# Altium footprint library SMD-14.PcbLib: 1 footprints
Each footprint in its own frame and in the unit in brackets; x right, y up, seen from the top. Pads: shape width x height; smd on the part's side, far side on the other; paste and mask are expansions set on the pad; w line width, h text height; cw(c..) or ccw(c..) is an arc to the next point about the centre after c.
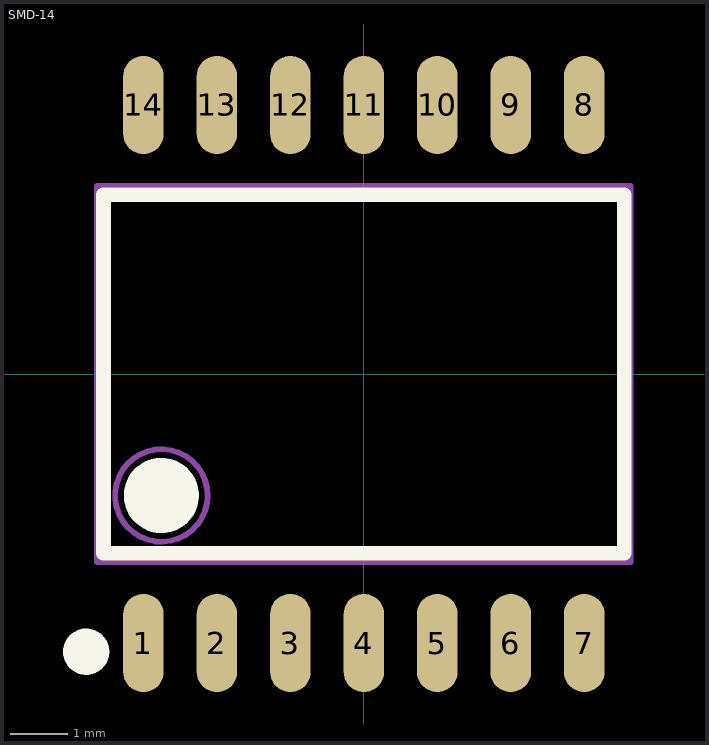
[diagram p0: the footprint, top view; thin cyan lines are the x and y axes]

## SMD-14 [mm]
pads (14):
  oval 0.7x1.7 smd: 1(-3.81,-4.65) 2(-2.54,-4.65) 3(-1.27,-4.65) 4(0,-4.65) 5(1.27,-4.65) 6(2.54,-4.65) 7(3.81,-4.65) 8(3.81,4.65) 9(2.54,4.65) 10(1.27,4.65) 11(0,4.65) 12(-1.27,4.65) 13(-2.54,4.65) 14(-3.81,4.65)
Top Overlay:
  circle w0.7: c-3.5,-2.1 r0.3
  circle w0.4: c-4.8,-4.8 r0.2
  lines w0.254: -4.5,-3.1 -4.5,3.1 4.5,3.1 4.5,-3.1 -4.5,-3.1
Mechanical 13:
  circle w0.1: c-3.5,-2.1 r0.8
  lines w0.1: -4.61,-3.25 4.61,-3.25 4.61,3.25 -4.61,3.25 -4.61,-3.25